# Altium schematic symbol library BB_LIBRERIA.SchLib: 3 symbols
Pins are listed as number, name and electrical type; pins without a type are passive.

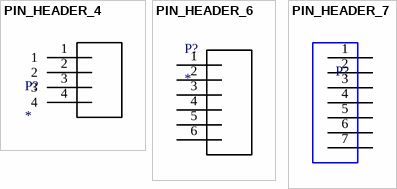
[diagram p0: symbols PIN_HEADER_4 to PIN_HEADER_7]

## PIN_HEADER_4
designator P?
footprint PIN_HEADER_4
pins: 1, 2, 3, 4

## PIN_HEADER_6
designator P?
footprint PIN_HEADER_6
pins: 1, 2, 3, 4, 5, 6

## PIN_HEADER_7
designator P?  (value not drawn)
footprint PIN_HEADER_7
pins: 1, 2, 3, 4, 5, 6, 7